# Altium footprint library B32922C3474M.PcbLib: 1 footprints
Each footprint in its own frame and in the unit in brackets; x right, y up, seen from the top. Pads: shape width x height; smd on the part's side, far side on the other; paste and mask are expansions set on the pad; w line width, h text height; cw(c..) or ccw(c..) is an arc to the next point about the centre after c.
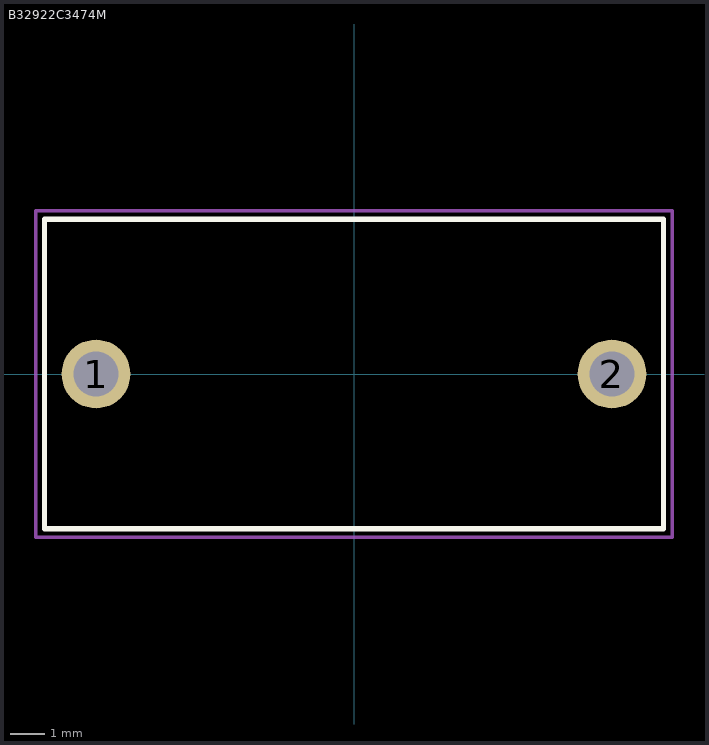
[diagram p0: the footprint, top view; thin cyan lines are the x and y axes]

## B32922C3474M [mm]
pads (2):
  round 2 hole 1.3: 1(-7.5,0) 2(7.5,0)
Top Overlay:
  lines w0.15: -9,-4.5 -9,4.5 9,4.5 9,-4.5 -9,-4.5
Mechanical 13:
  lines w0.1: -9,-4.5 9,-4.5 9,4.5 -9,4.5 -9,-4.5
Mechanical 15:
  lines w0.1: -9.25,-4.75 -9.25,4.75 9.25,4.75 9.25,-4.75 -9.25,-4.75
3D body: height 17.8, standoff -3.7, extent -9,-4.5 9,4.5